# EAGLE library part ZS-042_RTC_6-PIN_FEMALE_HEADER (library myLib-01-Headers)
Header for the ZS-042 RTC six pin module. Based on DS3231 Female
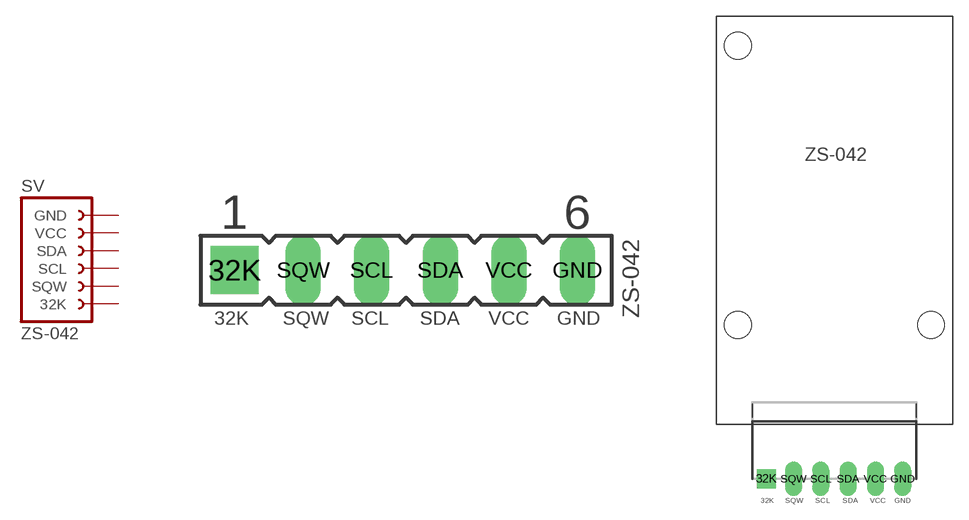
[diagram p1: symbol with the pads of ZS-042_RTC_6-PIN_FEMALE_HEADER; footprints ZS-042_RTC_6-PIN_FEMALE_HEADER, ZS-042_RTC_6-PIN_FEMALE_HEADER_ANGLED_W_MOUNT_HOLES]

Designator prefix SV

## ZS-042_RTC_6-PIN_FEMALE_HEADER (OC_FARNELL: unknown; OC_NEWARK: unknown)  [ZS-042_RTC_6-PIN_FEMALE_HEADER]
32K  32K  pas
GND  GND  pas
SCL  SCL  pas
SDA  SDA  pas
SQW  SQW  pas
VCC  VCC  pas

## ZS-042_RTC_6-PIN_FEMALE_HEADERANGLED_W_MOUNT_HOLES  [ZS-042_RTC_6-PIN_FEMALE_HEADER_ANGLED_W_MOUNT_HOLES]
Pads as for ZS-042_RTC_6-PIN_FEMALE_HEADER

## Footprint ZS-042_RTC_6-PIN_FEMALE_HEADER (pad centres in mm)
FEMALE HEADER
drill 0.813 pad 1.778 square: 32K 0,0
drill 0.813 long: GND 12.7,0; SCL 5.08,0; SDA 7.62,0; SQW 2.54,0; VCC 10.16,0

## Footprint ZS-042_RTC_6-PIN_FEMALE_HEADER_ANGLED_W_MOUNT_HOLES (pad centres in mm)
PIN HEADER
drill 1.067 pad 1.778 square: 32K 0,0
drill 1.067 long: GND 12.7,0; SCL 5.08,0; SDA 7.62,0; SQW 2.54,0; VCC 10.16,0
hole 2.5 at -2.65,14.35
hole 2.5 at 15.35,14.35
hole 2.5 at -2.65,40.35